# EAGLE library part DISPLAY1 (library 0_HTL_uC-MEGACARD)
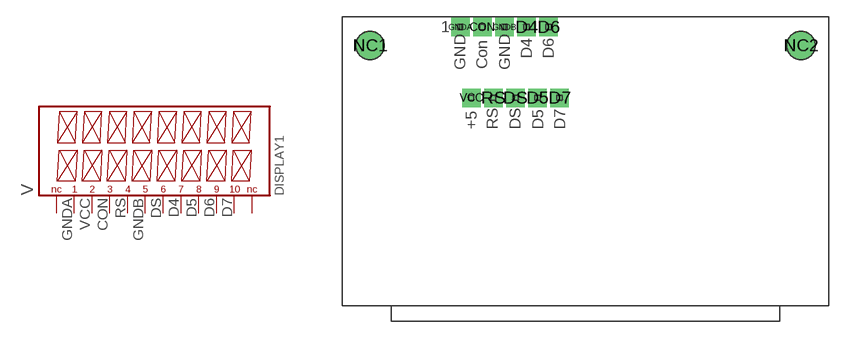
[diagram p18: symbol with the pads of DISPLAY1; footprint DISPLAY1]

Designator prefix V

## DISPLAY1  [DISPLAY1]
CON  CON  in
D4  D4  in
D5  D5  in
D6  D6  in
D7  D7  in
DS  DS  in
GNDA  GNDA  pwr
GNDB  GNDB  pwr
NC1  NC1  nc
NC2  NC2  nc
RS  RS  in
VCC  VCC  pwr

## Footprint DISPLAY1 (pad centres in mm)
drill 0.8 pad 1.676 square: CON -9.351,12.224; D4 -5.351,12.224; D5 -4.351,5.815; D6 -3.351,12.224; D7 -2.351,5.815; DS -6.351,5.815; GNDA -11.351,12.224; GNDB -7.351,12.224; RS -8.351,5.815; VCC -10.351,5.815
drill 1.3 pad 2.54 octagon: NC1 -19.526,10.557; NC2 19.526,10.557